# EAGLE library part RM106772BCB (library switches)
Rotary Switch 6 Position SP6T 500mA (DC) 24VDC Through Hole
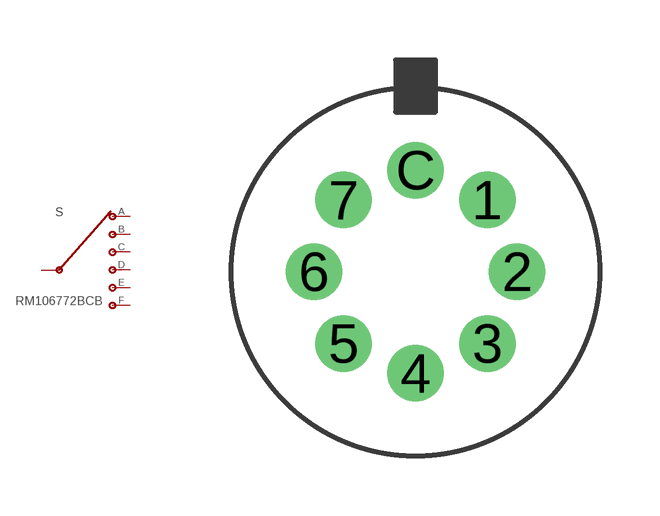
[diagram p11: symbol with the pads of RM-SWITCH; footprint RM-SWITCH]

Designator prefix S

## RM106772BCB (DIGIKEY: CKN10703-ND)  [RM-SWITCH]
1  A
2  B
3  C
4  D
5  E
6  F
C  INPUT

## Footprint RM-SWITCH (pad centres in mm)
drill 0.9: 1 1.796,1.796; 2 2.54,0; 3 1.796,-1.796; 4 0,-2.54; 5 -1.796,-1.796; 6 -2.54,0; 7 -1.796,1.796; C 0,2.54